# Altium footprint library ee_453_ret.PcbLib: 17 footprints (part 1 of 2)
Each footprint in its own frame and in the unit in brackets; x right, y up, seen from the top. Pads: shape width x height; smd on the part's side, far side on the other; paste and mask are expansions set on the pad; w line width, h text height; cw(c..) or ccw(c..) is an arc to the next point about the centre after c.
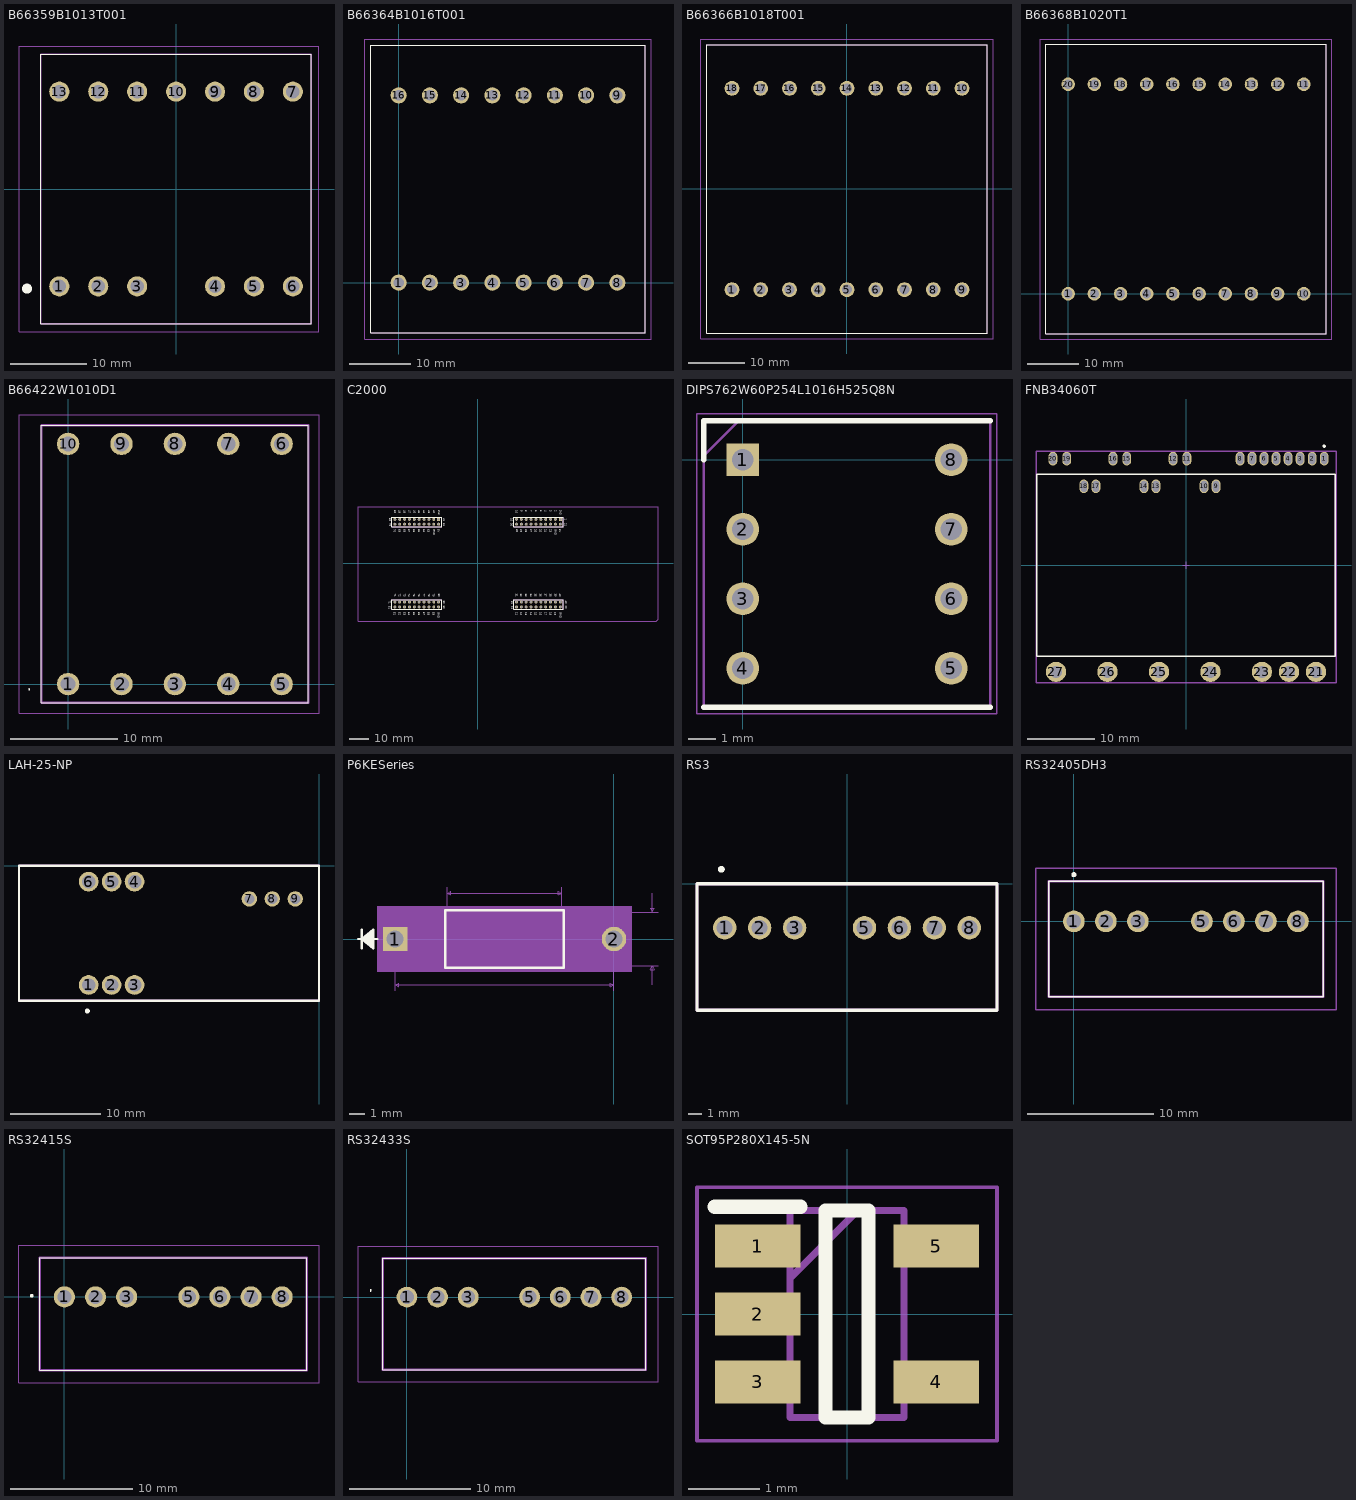
[diagram p0: the footprints below, top view; thin cyan lines are the x and y axes]

## B66359B1013T001 [mm]
pads (13):
  round 2.625 hole 1.75: 1(-15.24,-12.7) 2(-10.16,-12.7) 3(-5.08,-12.7) 4(5.08,-12.7) 5(10.16,-12.7) 6(15.24,-12.7) 7(15.24,12.7) 8(10.16,12.7) 9(5.08,12.7) 10(0,12.7) 11(-5.08,12.7) 12(-10.16,12.7) 13(-15.24,12.7)
Top Overlay:
  lines w0.1: -17.65,-17.6 17.65,-17.6 17.65,17.6 -17.65,17.6 -17.65,-17.6
  lines w1.2: -19.5,-13 cw(c-19.45,-13) -19.4,-13 cw(c-19.45,-13) -19.5,-13
Mechanical 13:
  lines w0.2: -17.65,-17.6 17.65,-17.6 17.65,17.6 -17.65,17.6 -17.65,-17.6
Mechanical 15:
  lines w0.1: -20.5,-18.6 18.65,-18.6 18.65,18.6 -20.5,18.6 -20.5,-18.6
3D body "B66359B1013T001.stp": height 25, standoff -5, extent -17.65,-17.6 17.65,17.6

## B66364B1016T001 [mm]
pads (16):
  round 2.625 hole 1.75: 1(0,0) 2(5.08,0) 3(10.16,0) 4(15.24,0) 5(20.32,0) 6(25.4,0) 7(30.48,0) 8(35.56,0) 9(35.56,30.48) 10(30.48,30.48) 11(25.4,30.48) 12(20.32,30.48) 13(15.24,30.48) 14(10.16,30.48) 15(5.08,30.48) 16(0,30.48)
Top Overlay:
  lines w0.1: -4.52,-8.16 -4.52,38.64 40.08,38.64 40.08,-8.16 -4.52,-8.16
Mechanical 13:
  lines w0.2: -4.52,-8.16 -4.52,38.64 40.08,38.64 40.08,-8.16 -4.52,-8.16
Mechanical 15:
  lines w0.1: -5.52,-9.16 -5.52,39.64 41.08,39.64 41.08,-9.16 -5.52,-9.16
3D body "B66364B1016T001.stp": height 35.5, standoff -5, extent -4.52,-8.16 40.08,38.64

## B66366B1018T001 [mm]
pads (18):
  round 2.625 hole 1.75: 1(-20.32,-17.78) 2(-15.24,-17.78) 3(-10.16,-17.78) 4(-5.08,-17.78) 5(0,-17.78) 6(5.08,-17.78) 7(10.16,-17.78) 8(15.24,-17.78) 9(20.32,-17.78) 10(20.32,17.78) 11(15.24,17.78) 12(10.16,17.78) 13(5.08,17.78) 14(0,17.78) 15(-5.08,17.78) 16(-10.16,17.78) 17(-15.24,17.78) 18(-20.32,17.78)
Top Overlay:
  lines w0.1: -24.8,-25.5 24.8,-25.5 24.8,25.5 -24.8,25.5 -24.8,-25.5
Mechanical 13:
  lines w0.2: -24.8,-25.5 24.8,-25.5 24.8,25.5 -24.8,25.5 -24.8,-25.5
Mechanical 15:
  lines w0.1: -25.8,-26.5 25.8,-26.5 25.8,26.5 -25.8,26.5 -25.8,-26.5
3D body "B66366B1018T001.stp": height 38.4, standoff -5, extent -24.8,-25.5 24.8,25.5

## B66368B1020T1 [mm]
pads (20):
  round 2.625 hole 1.75: 1(0,0) 2(5.08,0) 3(10.16,0) 4(15.24,0) 5(20.32,0) 6(25.4,0) 7(30.48,0) 8(35.56,0) 9(40.64,0) 10(45.72,0) 11(45.72,40.64) 12(40.64,40.64) 13(35.56,40.64) 14(30.48,40.64) 15(25.4,40.64) 16(20.32,40.64) 17(15.24,40.64) 18(10.16,40.64) 19(5.08,40.64) 20(0,40.64)
Top Overlay:
  lines w0.1: -4.39,-7.78 -4.39,48.42 50.11,48.42 50.11,-7.78 -4.39,-7.78
Mechanical 13:
  lines w0.2: -4.39,-7.78 -4.39,48.42 50.11,48.42 50.11,-7.78 -4.39,-7.78
Mechanical 15:
  lines w0.1: -5.39,-8.78 -5.39,49.42 51.11,49.42 51.11,-8.78 -5.39,-8.78
3D body "B66368B1020T1.stp": height 40.9, standoff -5, extent -4.39,-7.78 50.11,48.42

## B66422W1010D1 [mm]
pads (10):
  round 2.1 hole 1.4: 1(0,0) 2(5,0) 3(10,0) 4(15,0) 5(20,0) 6(20,22.5) 7(15,22.5) 8(10,22.5) 9(5,22.5) 10(0,22.5)
Top Overlay:
  lines w0.1: -3.7,-0.5 cw(c-3.65,-0.5) -3.6,-0.5 cw(c-3.65,-0.5) -3.7,-0.5 ; -2.5,-1.75 -2.5,24.25 22.5,24.25 22.5,-1.75 -2.5,-1.75
Mechanical 13:
  lines w0.2: -2.5,-1.75 -2.5,24.25 22.5,24.25 22.5,-1.75 -2.5,-1.75
Mechanical 15:
  lines w0.1: -4.6,-2.75 -4.6,25.25 23.5,25.25 23.5,-2.75 -4.6,-2.75
3D body "B66422W1010D1.stp": height 12, standoff -5, extent -2.5,-1.75 22.5,24.25

## C2000 [mm]
pads (80):
  rrect6% 1.55x1.55 hole 1.02: 1(43.18,22.86) 41(-20.32,22.86)
  round 1.55 hole 1.02: 2(40.64,22.86) 3(38.1,22.86) 4(35.56,22.86) 5(33.02,22.86) 6(30.48,22.86) 7(27.94,22.86) 8(25.4,22.86) 9(22.86,22.86) 10(20.32,22.86) 11(20.32,-22.86) 12(22.86,-22.86) 13(25.4,-22.86) 14(27.94,-22.86) 15(30.48,-22.86) 16(33.02,-22.86) 17(35.56,-22.86) 18(38.1,-22.86) 19(40.64,-22.86) 20(43.18,-22.86) 21(43.18,20.32) 22(40.64,20.32) 23(38.1,20.32) 24(35.56,20.32) 25(33.02,20.32) 26(30.48,20.32) 27(27.94,20.32) 28(25.4,20.32) 29(22.86,20.32) 30(20.32,20.32) 31(20.32,-20.32) 32(22.86,-20.32) 33(25.4,-20.32) 34(27.94,-20.32) 35(30.48,-20.32) 36(33.02,-20.32) 37(35.56,-20.32) 38(38.1,-20.32) 39(40.64,-20.32) 40(43.18,-20.32) 42(-22.86,22.86) 43(-25.4,22.86) 44(-27.94,22.86) 45(-30.48,22.86) 46(-33.02,22.86) 47(-35.56,22.86) 48(-38.1,22.86) 49(-40.64,22.86) 50(-43.18,22.86) 51(-43.18,-22.86) 52(-40.64,-22.86) 53(-38.1,-22.86) 54(-35.56,-22.86) 55(-33.02,-22.86) 56(-30.48,-22.86) 57(-27.94,-22.86) 58(-25.4,-22.86) 59(-22.86,-22.86) 60(-20.32,-22.86) 61(-20.32,20.32) 62(-22.86,20.32) 63(-25.4,20.32) 64(-27.94,20.32) 65(-30.48,20.32) 66(-33.02,20.32) 67(-35.56,20.32) 68(-38.1,20.32) 69(-40.64,20.32) 70(-43.18,20.32) 71(-43.18,-20.32) 72(-40.64,-20.32) 73(-38.1,-20.32) 74(-35.56,-20.32) 75(-33.02,-20.32) 76(-30.48,-20.32) 77(-27.94,-20.32) 78(-25.4,-20.32) 79(-22.86,-20.32) 80(-20.32,-20.32)
Top Overlay:
  lines w0.2: -44.704,-24.066 -18.796,-24.066 -18.796,-19.113 -44.704,-19.113 -44.704,-24.066 ; -44.704,19.113 -18.796,19.113 -18.796,24.067 -44.704,24.067 -44.704,19.113 ; 18.796,-24.066 44.704,-24.066 44.704,-19.113 18.796,-19.113 18.796,-24.066 ; 18.796,19.113 44.704,19.113 44.704,24.067 18.796,24.067 18.796,19.113
  text "51" at -46.355,-22.559 h0.76
  text "71" at -46.394,-19.752 h0.76
  text "40" at 42.672,-15.998 h0.76
  text "GND" at -20.701,-25.734 h0.76
  text "3V3" at -20.623,27.558 h0.76
  text "GND" at -23.204,17.566 h0.76
  text "5V" at -20.75,17.566 h0.76
  text "3V3" at 43.004,27.558 h0.76
  text "5V" at 42.75,17.566 h0.76
  text "GND" at 40.296,17.566 h0.76
  text "GND" at 42.799,-25.734 h0.76
  text "40" at 45.798,-19.685 h0.76
  text "31" at 17.526,-19.812 h0.76
  text "11" at 17.526,-22.428 h0.76
  text "20" at 45.798,-22.225 h0.76
  text "21" at 45.593,20.955 h0.76
  text "30" at 17.399,20.955 h0.76
  text "1" at 45.593,23.114 h0.76
  text "10" at 17.399,23.419 h0.76
  text "71" at -43.434,-15.998 h0.76
  text "80" at -17.78,-19.685 h0.76
  text "60" at -17.78,-22.225 h0.76
  text "70" at -45.974,20.955 h0.76
  text "50" at -45.974,23.419 h0.76
  text "61" at -17.78,20.828 h0.76
  text "41" at -17.78,23.495 h0.76
  text "2" at 40.259,27.558 h0.76
  text "3" at 37.719,27.558 h0.76
  text "4" at 35.179,27.558 h0.76
  text "5" at 32.639,27.558 h0.76
  text "6" at 30.099,27.558 h0.76
  text "7" at 27.559,27.558 h0.76
  text "8" at 25.019,27.558 h0.76
  text "9" at 22.479,27.558 h0.76
  text "10" at 19.939,27.558 h0.76
  text "23" at 37.592,17.566 h0.76
  text "24" at 35.052,17.566 h0.76
  text "25" at 32.512,17.566 h0.76
  text "26" at 29.972,17.566 h0.76
  text "28" at 24.892,17.566 h0.76
  text "29" at 22.352,17.566 h0.76
  text "30" at 20.066,17.566 h0.76
  text "70" at -43.688,17.566 h0.76
  text "69" at -41.148,17.566 h0.76
  text "68" at -38.608,17.566 h0.76
  text "66" at -33.528,17.566 h0.76
  text "65" at -30.988,17.566 h0.76
  text "64" at -28.448,17.566 h0.76
  text "63" at -25.908,17.566 h0.76
  text "50" at -43.561,27.558 h0.76
  text "49" at -41.021,27.558 h0.76
  text "48" at -38.481,27.558 h0.76
  text "47" at -35.941,27.558 h0.76
  text "46" at -33.401,27.558 h0.76
  text "45" at -30.861,27.558 h0.76
  text "44" at -28.321,27.558 h0.76
  text "43" at -25.781,27.558 h0.76
  text "42" at -23.241,27.558 h0.76
  text "67" at -36.068,17.566 h0.76
  text "54" at -36.068,-25.734 h0.76
  text "77" at -28.355,-15.998 h0.76
  text "76" at -30.895,-15.998 h0.76
  text "75" at -33.528,-15.998 h0.76
  text "74" at -36.068,-15.998 h0.76
  text "73" at -38.515,-15.998 h0.76
  text "72" at -41.055,-15.998 h0.76
  text "80" at -20.608,-15.998 h0.76
  text "58" at -25.908,-25.734 h0.76
  text "57" at -28.448,-25.734 h0.76
  text "56" at -30.988,-25.734 h0.76
  text "55" at -33.528,-25.734 h0.76
  text "53" at -38.608,-25.734 h0.76
  text "52" at -41.148,-25.734 h0.76
  text "51" at -43.688,-25.734 h0.76
  text "14" at 27.432,-25.734 h0.76
  text "37" at 35.052,-15.998 h0.76
  text "36" at 32.512,-15.998 h0.76
  text "35" at 29.972,-15.998 h0.76
  text "34" at 27.432,-15.998 h0.76
  text "33" at 24.892,-15.998 h0.76
  text "32" at 22.352,-15.998 h0.76
  text "31" at 19.812,-15.998 h0.76
  text "18" at 37.592,-25.734 h0.76
  text "17" at 35.052,-25.734 h0.76
  text "16" at 32.512,-25.734 h0.76
  text "15" at 29.972,-25.734 h0.76
  text "13" at 24.892,-25.734 h0.76
  text "12" at 22.352,-25.734 h0.76
  text "11" at 19.812,-25.734 h0.76
  text "59" at -23.368,-25.734 h0.76
  text "19" at 40.132,-25.734 h0.76
  text "27" at 27.432,17.566 h0.76
  text "38" at 37.719,-15.998 h0.76
  text "39" at 40.259,-15.998 h0.76
  text "79" at -23.275,-15.998 h0.76
  text "78" at -25.815,-15.998 h0.76
Bottom Overlay:
  lines w0.2: -44.704,-24.067 -44.704,-19.113 -18.796,-19.113 -18.796,-24.067 -44.704,-24.067 ; -44.704,19.113 -44.704,24.066 -18.796,24.066 -18.796,19.113 -44.704,19.113 ; 18.796,-24.067 18.796,-19.113 44.704,-19.113 44.704,-24.067 18.796,-24.067 ; 18.796,19.113 44.704,19.113 44.704,24.066 18.796,24.066 18.796,19.113
  text "P12" at -46.355,-24.59 h0.76
  text "71" at -46.394,-20.767 h0.76
  text "GND" at -20.75,-27.765 h0.76
  text "GND" at 42.877,-27.765 h0.76
  text "3V3" at 42.926,25.526 h0.76
  text "5V" at 42.75,16.296 h0.76
  text "GND" at 40.259,15.535 h0.76
  text "3V3" at -20.574,25.526 h0.76
  text "5V" at -20.75,16.296 h0.76
  text "GND" at -23.241,15.535 h0.76
  text "1" at 45.593,22.733 h0.76
  text "21" at 45.593,19.939 h0.76
  text "10" at 17.399,22.352 h0.76
  text "30" at 17.399,19.558 h0.76
  text "20" at 45.798,-23.495 h0.76
  text "40" at 45.798,-21.082 h0.76
  text "11" at 17.526,-23.368 h0.76
  text "31" at 17.526,-20.828 h0.76
  text "70" at -45.974,19.812 h0.76
  text "50" at -45.974,22.352 h0.76
  text "61" at -17.78,19.812 h0.76
  text "41" at -17.78,22.098 h0.76
  text "71" at -43.434,-17.014 h0.76
  text "80" at -17.78,-20.828 h0.76
  text "60" at -17.78,-23.622 h0.76
  text "P57" at 40.132,-27.765 h0.76
  text "NC" at 37.719,-27.003 h0.76
  text "NC" at 35.052,-27.003 h0.76
  text "XRSn" at 32.512,-27.765 h0.76
  text "P16" at 29.972,-27.765 h0.76
  text "P17" at 27.432,-27.765 h0.76
  text "P39" at 24.892,-27.765 h0.76
  text "P23" at 22.352,-27.765 h0.76
  text "P59" at 19.812,-27.765 h0.76
  text "P10" at 42.672,-17.903 h0.76
  text "P11" at 40.259,-17.649 h0.76
  text "P08" at 37.719,-18.03 h0.76
  text "P09" at 35.052,-18.03 h0.76
  text "P04" at 32.512,-18.03 h0.76
  text "P05" at 29.972,-18.03 h0.76
  text "P58" at 27.432,-18.03 h0.76
  text "P30" at 24.892,-18.03 h0.76
  text "P18" at 22.352,-17.903 h0.76
  text "P25" at 19.812,-18.03 h0.76
  text "P14" at -41.055,-17.903 h0.76
  text "P15" at -38.515,-17.903 h0.76
  text "P26" at -35.975,-18.03 h0.76
  text "P03" at -33.435,-18.03 h0.76
  text "P02" at -30.895,-18.03 h0.76
  text "P07" at -28.482,-18.03 h0.76
  text "P06" at -25.815,-18.03 h0.76
  text "P01" at -23.275,-17.776 h0.76
  text "P00" at -20.608,-18.03 h0.76
  text "P12" at -43.688,-27.765 h0.76
  text "P34" at -41.148,-27.765 h0.76
  text "P33" at -38.608,-27.765 h0.76
  text "P31" at -36.068,-27.765 h0.76
  text "P24" at -33.528,-27.765 h0.76
  text "XRSn" at -30.988,-27.765 h0.76
  text "NC" at -28.448,-27.003 h0.76
  text "NC" at -25.908,-27.003 h0.76
  text "P27" at -23.368,-27.765 h0.76
  text "AA6" at -25.908,15.535 h0.76
  text "AC1" at -33.528,15.789 h0.76
  text "AA0/DACA" at -44.958,11.726 h0.76
  text "PGAGND" at -23.368,24.765 h0.76
  text "P28" at -25.781,25.526 h0.76
  text "P29" at -28.321,25.526 h0.76
  text "P22" at -35.941,25.526 h0.76
  text "NC" at -41.021,26.288 h0.76
  text "NC" at -43.561,26.288 h0.76
  text "P35" at 19.939,25.526 h0.76
  text "P37" at 22.479,25.526 h0.76
  text "P56" at 27.559,25.526 h0.76
  text "P40" at 35.179,25.526 h0.76
  text "P13" at 37.719,25.653 h0.76
  text "PGAGND" at 40.132,24.765 h0.76
  text "AB1" at 29.972,15.789 h0.76
  text "AC2" at 32.512,15.535 h0.76
  text "AB0" at 35.052,15.535 h0.76
  text "AA5" at 37.592,15.535 h0.76
  text "NC" at 32.639,26.288 h0.76
  text "AB3" at 30.099,25.526 h0.76
  text "AC4" at 25.019,25.526 h0.76
  text "AB4/G4O" at -30.734,24.875 h0.64
  text "AA4/G2O" at -33.401,24.875 h0.64
  text "AA8/G6O" at -38.481,24.875 h0.64
  text "AA1/DACB" at 18.542,12.954 h0.76
  text "AA9/G5I" at 22.606,13.571 h0.64
  text "AC0/G3I" at 25.019,13.571 h0.64
  text "AB2/G1I" at 27.686,13.677 h0.64
Mechanical 6:
  lines w0.1: -44.704,-24.066 -44.704,-19.113 -18.796,-19.113 -18.796,-24.066 -44.704,-24.066 ; -44.704,19.113 -44.704,24.067 -18.796,24.067 -18.796,19.113 -44.704,19.113 ; 18.796,-24.066 44.704,-24.066 44.704,-19.113 18.796,-19.113 18.796,-24.066 ; 18.796,19.113 18.796,24.067 44.704,24.067 44.704,19.113 18.796,19.113
Mechanical - C2000 Outline (Mech16):
  lines w0.025: -62.406,-30.226 -62.406,29.21 -62.279,29.337 94.185,29.337 94.185,-29.337 93.296,-30.226 -62.406,-30.226
3D body "SSQ-110-03-T-D.stp": height 8.51, standoff -10.01, extent -44.704,19.113 -18.796,24.066
3D body "SSQ-110-03-T-D.stp": height 8.51, standoff -10.01, extent -44.704,-24.067 -18.796,-19.114
3D body "SSQ-110-03-T-D.stp": height 8.51, standoff -10.01, extent 18.796,19.113 44.704,24.066
3D body "SSQ-110-03-T-D.stp": height 8.51, standoff -10.01, extent 18.796,-24.067 44.704,-19.114

## DIPS762W60P254L1016H525Q8N [mm]
pads (8):
  rect 1.2x1.2 hole 0.8: 1(0,0)
  round 1.2 hole 0.8: 2(0,-2.54) 3(0,-5.08) 4(0,-7.62) 5(7.62,-7.62) 6(7.62,-5.08) 7(7.62,-2.54) 8(7.62,0)
Top Overlay:
  lines w0.2: -1.42,-9.04 9.04,-9.04 ; -1.42,0 -1.42,1.42 9.04,1.42
Mechanical 13:
  lines w0.1: -1.42,0.15 -0.15,1.42 ; -1.42,-9.04 -1.42,1.42 9.04,1.42 9.04,-9.04 -1.42,-9.04
Mechanical 15:
  lines w0.05: -1.67,-9.29 -1.67,1.67 9.29,1.67 9.29,-9.29 -1.67,-9.29

## FNB34060T [mm]
pads (27):
  oval 1.3x2 hole 1.6 slot 0.9 at 0 deg paste-1000 mask+0: 1(20.447,15.78) 2(18.669,15.78) 3(16.891,15.78) 4(15.113,15.78) 5(13.335,15.78) 6(11.557,15.78) 7(9.779,15.78) 8(8.001,15.78) 9(4.445,11.68) 10(2.667,11.68) 11(0.136,15.78) 12(-1.914,15.78) 13(-4.445,11.68) 14(-6.223,11.68) 15(-8.754,15.78) 16(-10.804,15.78) 17(-13.335,11.68) 18(-15.113,11.68) 19(-17.644,15.78) 20(-19.694,15.78)
  round 3 hole 1.8 paste-1000 mask+0: 21(19.24,-15.78) 22(15.24,-15.78) 23(11.24,-15.78) 24(3.62,-15.78) 25(-4,-15.78) 26(-11.62,-15.78) 27(-19.24,-15.78)
Top Overlay:
  circle w0.25: c20.447,17.63 r0.125
  lines w0.2: -22.1,-13.5 -22.1,13.5 22.1,13.5 22.1,-13.5 -22.1,-13.5
Mechanical 10:
  lines w0.2: -22.2,-17.38 -22.2,16.88 22.2,16.88 22.2,-17.38 -22.2,-17.38
  text ".Designator" at 0,-0.25 h1
Mechanical 12:
  lines w0.15: -22.1,-13.5 -22.1,13.5 22.1,13.5 22.1,-13.5 -22.1,-13.5
Mechanical 15:
  lines w0.1: -0.5,0 0.5,0 ; 0,-0.5 0,0.5
  lines w0.2: -22.2,-17.38 -22.2,16.88 22.2,16.88 22.2,-17.38 -22.2,-17.38
3D body "FNB34060T.STEP": height 5.61, standoff -2.59, extent -21.961,-16.101 21.968,16.382

## LAH-25-NP [mm]
pads (9):
  round 2.18 hole 1.48: 1(-25.49,-13.19) 2(-22.95,-13.19) 3(-20.41,-13.19) 4(-20.41,-1.76) 5(-22.95,-1.76) 6(-25.49,-1.76)
  round 1.7 hole 1.12: 7(-7.71,-3.665) 8(-5.17,-3.665) 9(-2.63,-3.665)
Top Overlay:
  circle w0.254: c-25.635,-16.072 r0.14
  lines w0.254: -33.2,-14.93 -33.2,0 0,0 0,-14.93 -33.2,-14.93
Mechanical 13:
  lines w0.254: -33.2,-14.93 0,-14.93 0,0 -33.2,0 -33.2,-14.93

## P6KESeries [mil]
pads (2):
  rect 64x64 hole 44: 1(-572,0)
  round 64 hole 44: 2(0,0)
Top Overlay:
  lines w6: -669,0 -619,0 ; -659,-25 -659,25 ; -629,-20 -659,0 ; -629,-15 -659,0 ; -629,-10 -659,0 ; -629,-5 -659,0 ; -629,5 -659,0 ; -629,10 -659,0 ; -629,15 -659,0 ; -629,20 -659,0 ; -659,0 -629,25 -629,-25 -659,0 ; -441,-75 -131,-75 -131,75 -441,75 -441,-75
Mechanical 5:
  region: 47,-85 -619,-85 -619,85 47,85
Mechanical 7:
  lines w1: -572,-135 -572,0 ; -436,70 -436,135 ; -136,-70 115,-70 ; -136,135 -136,70 115,70 ; 0,-135 0,0 ; 100,-120 100,-70 ; 100,120 100,70 ; -572,-120 0,-120 ; -572,-120 -562,-115 -562,-125 -572,-120 ; -436,120 -136,120 ; -436,120 -426,125 -426,115 -436,120 ; -136,120 -146,125 -146,115 -136,120 ; 0,-120 -10,-115 -10,-125 0,-120 ; 100,-70 95,-80 105,-80 100,-70 ; 100,70 95,80 105,80 100,70
Mechanical 13:
  lines w1: -669,0 -619,0 ; -659,-25 -659,25 ; -629,-20 -659,0 ; -629,-15 -659,0 ; -629,-10 -659,0 ; -629,-5 -659,0 ; -629,5 -659,0 ; -629,10 -659,0 ; -629,15 -659,0 ; -629,20 -659,0 ; -572,0 -436,0 ; -136,0 0,0 ; -659,0 -629,25 -629,-25 -659,0 ; -436,-70 -136,-70 -136,70 -436,70 -436,-70
  text "0.14in/3.556mm" at 120,-12.5 h25
  text "0.572in/14.529mm" at -386,-165 h25
  text "0.3in/7.62mm" at -361,140 h25
Mechanical 15:
  region: -446,-42 -614,-42 -614,42 -446,42 -446,80 -126,80 -126,42 42,42 42,-42 -126,-42 -126,-80 -446,-80
  lines w6: -614,-42 -614,42 -446,42 -446,80 -126,80 -126,42 42,42 42,-42 -126,-42 -126,-80 -446,-80 -446,-42 -614,-42
3D body: height 10, standoff 0, extent 0,0 10,10

## PCBComponent_1 [mm]

## RS3 [mm]
pads (7):
  round 1.7 hole 1.15: 1(-8.89,-3.2) 2(-6.35,-3.2) 3(-3.81,-3.2) 5(1.27,-3.2) 6(3.81,-3.2) 7(6.35,-3.2) 8(8.89,-3.2)
Top Overlay:
  circle w0.254: c-9.131,1.045 r0.121
  lines w0.254: -10.9,-9.2 10.9,-9.2 10.9,0 -10.9,0 -10.9,-9.2
Mechanical 13:
  lines w0.254: -10.9,-9.2 -10.9,0 10.9,0 10.9,-9.2 -10.9,-9.2

## RS32405DH3 [mm]
pads (7):
  round 1.725 hole 1.15: 1(0,0) 2(2.54,0) 3(5.08,0) 5(10.16,0) 6(12.7,0) 7(15.24,0) 8(17.78,0)
Top Overlay:
  lines w0.1: -2,-6 -2,3.2 19.8,3.2 19.8,-6 -2,-6
  lines w0.2: 0,3.6 cw(c0,3.7) 0,3.8 cw(c0,3.7) 0,3.6
Mechanical 13:
  lines w0.2: -2,-6 -2,3.2 19.8,3.2 19.8,-6 -2,-6
Mechanical 15:
  lines w0.1: -3,-7 -3,4.2 20.8,4.2 20.8,-7 -3,-7
3D body "RS3-2415D.stp": height 11.45, standoff -5, extent -2,-6 19.8,3.2

## RS32415S [mm]
pads (7):
  round 1.725 hole 1.15: 1(0,0) 2(2.54,0) 3(5.08,0) 5(10.16,0) 6(12.7,0) 7(15.24,0) 8(17.78,0)
Top Overlay:
  lines w0.1: -2.01,-6 -2.01,3.2 19.79,3.2 19.79,-6 -2.01,-6
  lines w0.2: -2.71,0.1 ccw(c-2.66,0.1) -2.61,0.1 ccw(c-2.66,0.1) -2.71,0.1
Mechanical 13:
  lines w0.2: -2.01,-6 -2.01,3.2 19.79,3.2 19.79,-6 -2.01,-6
Mechanical 15:
  lines w0.1: -3.71,-7 -3.71,4.2 20.79,4.2 20.79,-7 -3.71,-7
3D body "RS3-2415S.stp": height 11.45, standoff -5, extent -2.01,-6 19.79,3.2

## RS32433S [mm]
pads (7):
  round 1.725 hole 1.15: 1(0,0) 2(2.54,0) 3(5.08,0) 5(10.16,0) 6(12.7,0) 7(15.24,0) 8(17.78,0)
Top Overlay:
  lines w0.1: -3,0.5 cw(c-3,0.55) -3,0.6 cw(c-3,0.55) -3,0.5 ; -2.01,-6 -2.01,3.2 19.79,3.2 19.79,-6 -2.01,-6
Mechanical 13:
  lines w0.2: -2.01,-6 -2.01,3.2 19.79,3.2 19.79,-6 -2.01,-6
Mechanical 15:
  lines w0.1: -4.05,-7 -4.05,4.2 20.79,4.2 20.79,-7 -4.05,-7
3D body "RS3-243.3S.stp": height 11.45, standoff -5, extent -2.01,-6 19.79,3.2

## SOT95P280X145-5N [mm]
pads (5):
  rect 1.2x0.6 smd: 1(-1.25,0.95) 2(-1.25,0) 3(-1.25,-0.95) 4(1.25,-0.95) 5(1.25,0.95)
Top Overlay:
  lines w0.2: -1.85,1.5 -0.65,1.5 ; -0.3,-1.45 -0.3,1.45 0.3,1.45 0.3,-1.45 -0.3,-1.45
Mechanical 13:
  lines w0.1: -0.8,0.5 0.15,1.45 ; -0.8,-1.45 -0.8,1.45 0.8,1.45 0.8,-1.45 -0.8,-1.45
Mechanical 15:
  lines w0.05: -2.1,-1.775 -2.1,1.775 2.1,1.775 2.1,-1.775 -2.1,-1.775
3D body "INA194AIDBVR.stp": height 1.45, standoff 0, extent -1.4,-1.45 1.4,1.45